# Altium schematic symbol library NREC006SABC-M30RC.SchLib: 1 symbol
Pins are listed as number, name and electrical type; pins without a type are passive.

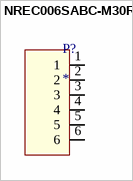
[diagram p0: symbol NREC006SABC-M30RC]

## NREC006SABC-M30RC
designator P?
CONN HEADER SMD 6POS 2.54MM / Manufacturer PN: NREC006SABC-M30RC
footprint NREC006SABC-M30RC
pins: 1, 2, 3, 4, 5, 6